# EAGLE library part 691231710006 (library Eagle_WR-TBL Rising Cage Clamp (rev20a))
WR-TBL Serie 2317 – 5.00 mm Double Level Horiz. Entry Modular w. Rising Cage KIND PROPERTIES Pitch 5 mm MATERIAL PROPERTIES Insulator Material PA66 Insulator Flammability Rating UL94 V-0 Contact Material Brass Contact Plating Tin Terminal Screw Material Steel Terminal Screw Plating Zinc Wire Guard Material Stainless Steel GENERAL INFORMATION Operating Temperature -40 up to +105 °C Compliance Lead free / RoHS ELECTRICAL PROPERTIES IR UL 10 A Working Voltage [UL] 300 V (AC) Withstanding Voltage [UL] 1600 V (AC) Contact Resistance [UL] 20 mΩ MECHANICAL PROPERTIES Wire Strip Length 6 up to 7 (mm) Screw M3 CERTIFICATION UL Approval E315414 PACKAGING PROPERTIES Packaging Box <https://www.we-online.com/catalog/media/o33244v209%20Family_WR-TBL_69123171000x.jpg> Details see: https://www.we-online.com/catalog/en/TBL_5_00_2317_DOUBLE_LEVEL_HORIZONTAL_ENTRY_MODULAR_W_RISING_CAGE_69123171000X/ Updated by Ella Wu 2019-11-22 2019(C) Wurth Elektronik
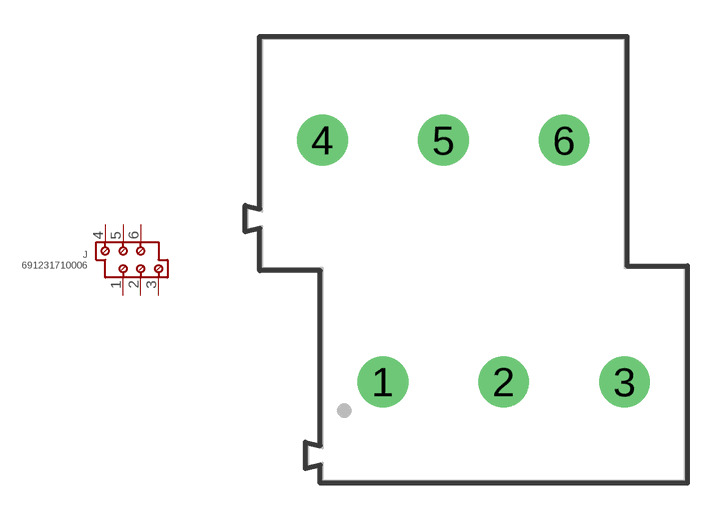
[diagram p50: symbol with the pads of 691231710006; footprint 691231710006]

Designator prefix J

## 691231710006 (DATASHEET-URL: https://www.we-online.com/catalog/datasheet/691231710006.pdf; IR-UL: 10A; MOUNT: THT; PART-NUMBER: 691231710006; PINS: 6; PITCH: 5mm; TYPE: Double Level Vertical; WIRE: 16 to 26 (AWG) 1.31 to 0.129 (mm²); WORKING-VOLTAGE-UL: 300V (AC))  [691231710006]
1  1  pas
2  2  pas
3  3  pas
4  4  pas
5  5  pas
6  6  pas

## Footprint 691231710006 (pad centres in mm)
WR-TBL Serie 2317 – 5.00 mm Double Level Horiz. Entry Modular w. Rising Cage Max Height =19.1mm , Pitch 5mm , 6 Pins
drill 1.4: 1 -5,0; 2 0,0; 3 5,0; 4 -7.5,10; 5 -2.5,10; 6 2.5,10